# EAGLE library part PDH_CONNECTOR_90 (library PHD_Connector_JST)
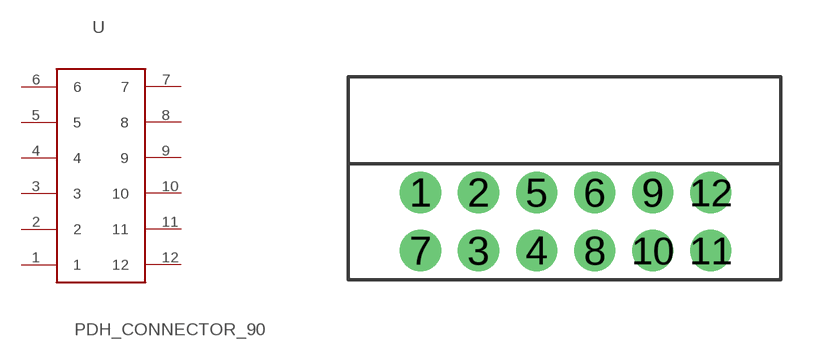
[diagram p0: symbol with the pads of PHD_CONNECTOR; footprint PHD_CONNECTOR]

Designator prefix -

## PDH_CONNECTOR_90  [PHD_CONNECTOR]
1  1
2  2
3  3
4  4
5  5
6  6
7  7
8  8
9  9
10  10
11  11
12  12

## Footprint PHD_CONNECTOR (pad centres in mm)
drill 0.8 pad 1.422: 1 2,3; 2 4,3; 3 4,1; 4 6,1; 5 6,3; 6 8,3; 7 2,1; 8 8,1; 9 10,3; 10 10,1; 11 12,1; 12 12,3